# Altium footprint library VESC6_3.PcbLib: 18 footprints (part 2 of 2)
Each footprint in its own frame and in the unit in brackets; x right, y up, seen from the top. Pads: shape width x height; smd on the part's side, far side on the other; paste and mask are expansions set on the pad; w line width, h text height; cw(c..) or ccw(c..) is an arc to the next point about the centre after c.
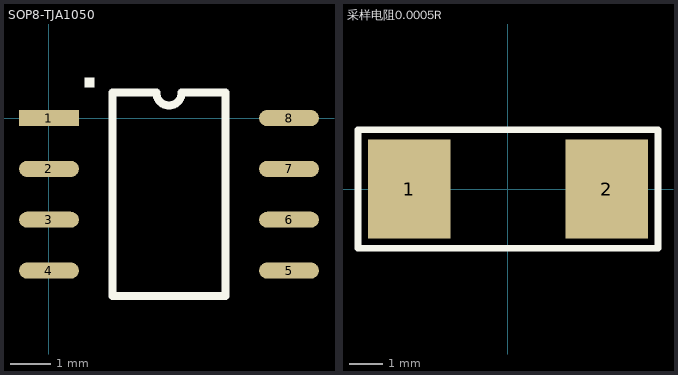
[diagram p1: the footprints below, top view; thin cyan lines are the x and y axes]

## SOP8-TJA1050 [mm]
pads (8):
  rect 1.5x0.4 smd: 1(0,0)
  oval 1.5x0.4 smd: 2(0,-1.27) 3(0,-2.54) 4(0,-3.81) 5(6,-3.81) 6(6,-2.54) 7(6,-1.27) 8(6,0)
Top Overlay:
  rectangle: 0.889,0.762 1.143,1.016
  lines w0.2: 1.585,-4.445 4.415,-4.445 4.415,0.635 3.317,0.635 cw(c3,0.635) 2.682,0.635 1.585,0.635 1.585,-4.445

## 采样电阻0.0005R [mm]
pads (2):
  rect 2.5x3 smd: 1(-3,0) 2(3,0)
Top Overlay:
  lines w0.2: -4.55,-1.8 -4.55,0 -4.55,1.8 4.55,1.8 4.55,-1.8 -4.55,-1.8